# Altium footprint library edgsm.PcbLib: 1 footprints
Each footprint in its own frame and in the unit in brackets; x right, y up, seen from the top. Pads: shape width x height; smd on the part's side, far side on the other; paste and mask are expansions set on the pad; w line width, h text height; cw(c..) or ccw(c..) is an arc to the next point about the centre after c.
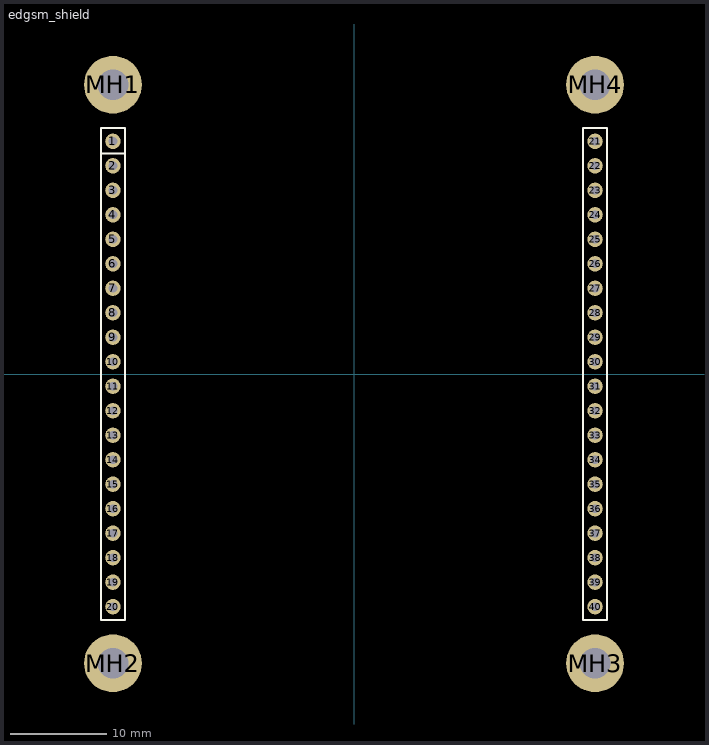
[diagram p0: the footprint, top view; thin cyan lines are the x and y axes]

## edgsm_shield [mm]
pads (44):
  round 1.6 hole 0.9: 1(-25,24.13) 2(-25,21.59) 3(-25,19.05) 4(-25,16.51) 5(-25,13.97) 6(-25,11.43) 7(-25,8.89) 8(-25,6.35) 9(-25,3.81) 10(-25,1.27) 11(-25,-1.27) 12(-25,-3.81) 13(-25,-6.35) 14(-25,-8.89) 15(-25,-11.43) 16(-25,-13.97) 17(-25,-16.51) 18(-25,-19.05) 19(-25,-21.59) 20(-25,-24.13) 21(25,24.13) 22(25,21.59) 23(25,19.05) 24(25,16.51) 25(25,13.97) 26(25,11.43) 27(25,8.89) 28(25,6.35) 29(25,3.81) 30(25,1.27) 31(25,-1.27) 32(25,-3.81) 33(25,-6.35) 34(25,-8.89) 35(25,-11.43) 36(25,-13.97) 37(25,-16.51) 38(25,-19.05) 39(25,-21.59) 40(25,-24.13)
  round 6 hole 3.2: MH1(-25,30) MH2(-25,-30) MH3(25,-30) MH4(25,30)
Top Overlay:
  lines w0.2: -26.25,22.86 -23.75,22.86 ; -26.25,-25.5 -23.75,-25.5 -23.75,25.5 -26.25,25.5 -26.25,-25.5 ; 23.75,-25.5 26.25,-25.5 26.25,25.5 23.75,25.5 23.75,-25.5
3D body: height 10, standoff 0, extent -27.8,-32.797 -22.2,-27.203
3D body: height 10, standoff 0, extent 22.2,-32.797 27.8,-27.203
3D body: height 10, standoff 0, extent 22.2,27.203 27.8,32.797
3D body: height 10, standoff 0, extent -27.8,27.203 -22.2,32.797
3D body "c-2-826646-0-p-3d.stp": height 8.6, standoff -3.2, extent 23.75,-25.4 26.25,25.4
3D body "c-2-826646-0-p-3d.stp": height 8.6, standoff -3.2, extent -26.25,-25.4 -23.75,25.4